# EAGLE library part LU-5-R (library Tinkercad)
CONTACT TYPE : SPDT COIL RATING : 5 to 48 VDC Datasheet <https://omronfs.omron.com/en_US/ecb/products/pdf/en-g2rl.pdf>
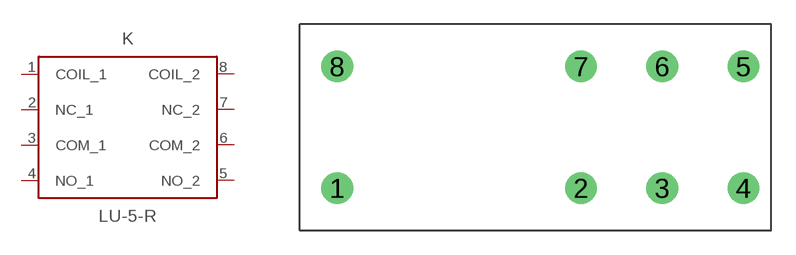
[diagram p36: symbol with the pads of G2RL-1-E; footprint G2RL-1-E]

Designator prefix K

## LU-5-R (CATEGORY: RELAY; MANUFACTURER: RAYEX ELEC.; MPN: LU-5-R; OPERATING_TEMP: -25°C to 40°C; SERIES: LU; SUB-CATEGORY: Power Relay; TYPE: SPDT)  [G2RL-1-E]
1  COIL_1
2  NC_1
3  COM_1
4  NO_1
5  NO_2
6  COM_2
7  NC_2
8  COIL_2

## Footprint G2RL-1-E (pad centres in mm)
drill 1.3: 1 0,0; 2 15,0; 3 20,0; 4 25,0; 5 25,7.5; 6 20,7.5; 7 15,7.5; 8 0,7.5